# Altium schematic symbol library Resistor_NTC.Schlib: 1 symbol
Pins are listed as number, name and electrical type; pins without a type are passive.

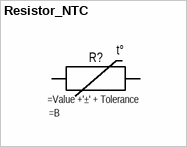
[diagram p0: symbol Resistor_NTC]

## Resistor_NTC
designator R?
B: =B
pins: 1, 2
text: t°